# Altium footprint library IMU.PcbLib: 1 footprints
Each footprint in its own frame and in the unit in brackets; x right, y up, seen from the top. Pads: shape width x height; smd on the part's side, far side on the other; paste and mask are expansions set on the pad; w line width, h text height; cw(c..) or ccw(c..) is an arc to the next point about the centre after c.
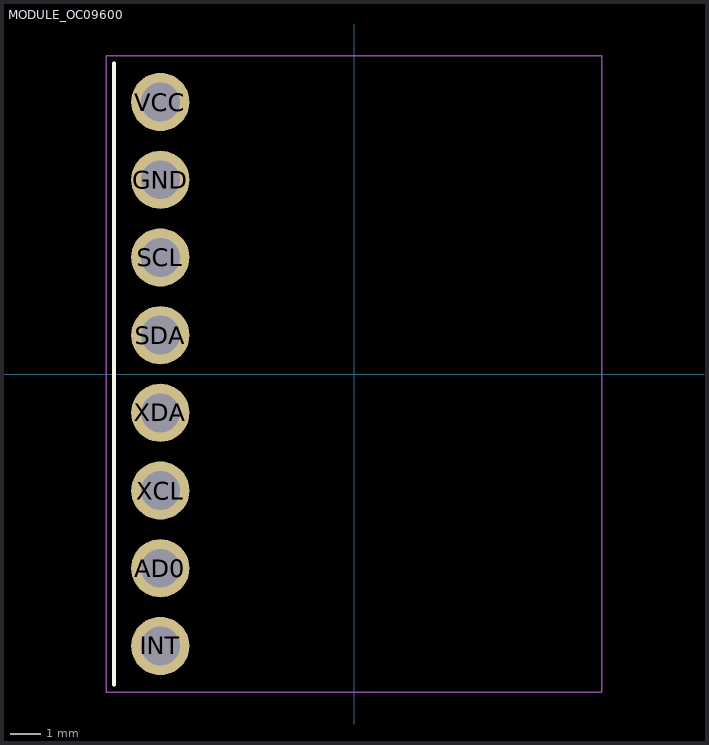
[diagram p0: the footprint, top view; thin cyan lines are the x and y axes]

## MODULE_OC09600 [mm]
height 3
pads (8):
  round 1.905 hole 1.27 mask+0.102: AD0(-6.33,-6.35) GND(-6.33,6.35) INT(-6.33,-8.89) SCL(-6.33,3.81) SDA(-6.33,1.27) VCC(-6.33,8.89) XCL(-6.33,-3.81) XDA(-6.33,-1.27)
Top Overlay:
  lines w0.127: -7.85,-10.15 -7.85,10.15
Assembly Top:
  lines w0.127: -7.85,-10.15 -7.85,10.15
Courtyard Top:
  lines w0.05: -8.1,-10.4 8.1,-10.4 8.1,10.4 -8.1,10.4 -8.1,-10.4
3D body "step_temp.STEP": height 3, standoff 0, extent -7.85,-10.15 7.85,10.15
3D body "M20-9990846--3DModel-STEP-56544.STEP": height 7.06, standoff -4.68, extent -7.62,-10.16 -5.08,10.16